# Altium schematic symbol library TC2030.SchLib: 1 symbol
Pins are listed as number, name and electrical type; pins without a type are passive.

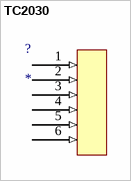
[diagram p0: symbol TC2030]

## TC2030
designator ?
footprint TC2030
pins: 1 (in), 2 (in), 3 (in), 4 (in), 5 (in), 6 (in)